# EAGLE library part ESP32-GEEKCREIT (library SPCoast)
https://www.banggood.com/ESP32-Development-Board-WiFiBluetooth-Ultra-Low-Power-Consumption-Dual-Cores-ESP-32-ESP-32S-Board-p-1109512.html
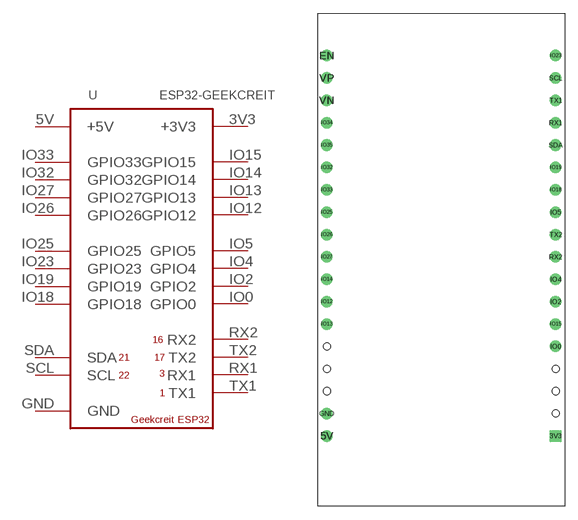
[diagram p66: symbol with the pads of ESP32-GEEKCREIT; footprint ESP32-GEEKCREIT]

Designator prefix -

## ESP32-GEEKCREITDOITV1  [ESP32-GEEKCREIT]
3V3  +3V3
5V  +5V
GND  GND
IO0  GPIO0
IO2  GPIO2
IO4  GPIO4
IO5  GPIO5
IO12  GPIO12
IO13  GPIO13
IO14  GPIO14
IO15  GPIO15
IO18  GPIO18
IO19  GPIO19
IO23  GPIO23
IO25  GPIO25
IO26  GPIO26
IO27  GPIO27
IO32  GPIO32
IO33  GPIO33
RX1  RX1
RX2  RX2
SCL  SCL
SDA  SDA
TX1  TX1
TX2  TX2

## Footprint ESP32-GEEKCREIT (pad centres in mm)
drill 0.8 square: 3V3 13,-20
drill 0.8: 5V -13,-20; EN -13,23.18; GND -13,-17.46; IO0 13,-9.84; IO2 13,-4.76; IO4 13,-2.22; IO5 13,5.4; IO12 -13,-4.76; IO13 -13,-7.3; IO14 -13,-2.22; IO15 13,-7.3; IO18 13,7.94; IO19 13,10.48; IO23 13,23.18; IO25 -13,5.4; IO26 -13,2.86; IO27 -13,0.32; IO32 -13,10.48; IO33 -13,7.94; IO34 -13,15.56; IO35 -13,13.02; RX1 13,15.56; RX2 13,0.32; SCL 13,20.64; SDA 13,13.02; TX1 13,18.1; TX2 13,2.86; VN -13,18.1; VP -13,20.64
hole 0.8 at 13,-17.46
hole 0.8 at 13,-14.92
hole 0.8 at 13,-12.38
hole 0.8 at -13,-12.38
hole 0.8 at -13,-14.92
hole 0.8 at -13,-9.84